# EAGLE library part TPA6139A2PW (library TI-TLC074CD)
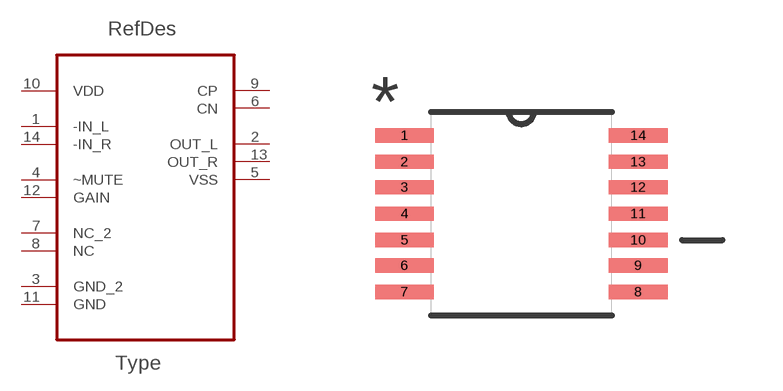
[diagram p0: symbol with the pads of SOP65P640X120-14N; footprint SOP65P640X120-14N]

Designator prefix U

## TPA6139A2PW (DESCRIPTION: 25-mW Headphone Amplifier; MPN: TPA6139A2PW; OC_FARNELL: 1872188; OC_NEWARK: 27T6833; PACKAGE: TSSOP-14; SUPPLIER: Texas Instruments)  [SOP65P640X120-14N]
1  -IN_L  in
2  OUT_L  out
3  GND_2  pas
4  ~MUTE  in
5  VSS  out
6  CN
7  NC_2  nc
8  NC  nc
9  CP
10  VDD  pwr
11  GND  pas
12  GAIN  in
13  OUT_R  out
14  -IN_R  in

## Footprint SOP65P640X120-14N (pad centres in mm)
smd 1.473 x 0.356: 1 -2.921,1.956; 2 -2.921,1.295; 3 -2.921,0.66; 4 -2.921,0; 5 -2.921,-0.66; 6 -2.921,-1.295; 7 -2.921,-1.956; 8 2.921,-1.956; 9 2.921,-1.295; 10 2.921,-0.66; 11 2.921,0; 12 2.921,0.66; 13 2.921,1.295; 14 2.921,1.956